# EAGLE library part BOARD_EDGE_SOCKET_36PIN (library SSI)
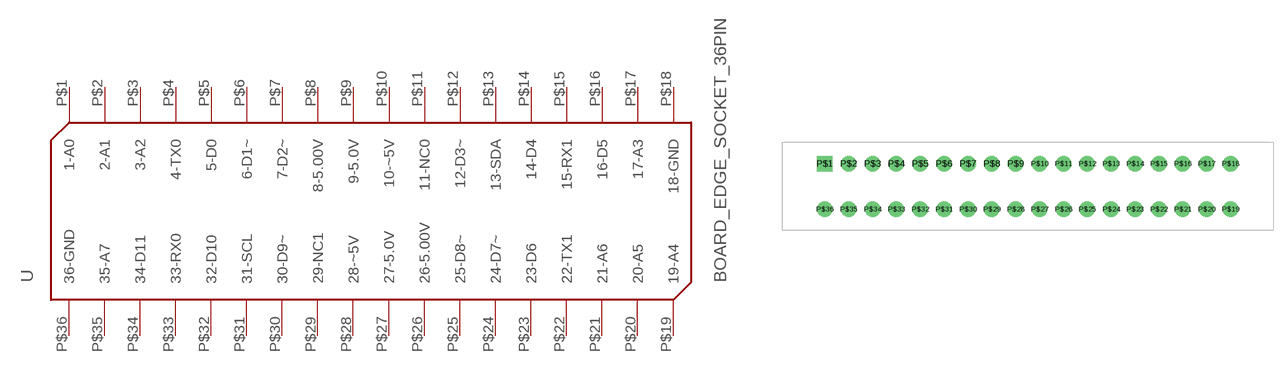
[diagram p5: symbol with the pads of BOARD_EDGE_SOCKET_36PIN; footprint BOARD_EDGE_SOCKET_36PIN]

Designator prefix -

## BOARD_EDGE_SOCKET_36PIN  [BOARD_EDGE_SOCKET_36PIN]
P$1  1-A0
P$2  2-A1
P$3  3-A2
P$4  4-TX0
P$5  5-D0
P$6  6-D1~
P$7  7-D2~
P$8  8-5.00V
P$9  9-5.0V
P$10  10-~5V
P$11  11-NC0
P$12  12-D3~
P$13  13-SDA
P$14  14-D4
P$15  15-RX1
P$16  16-D5
P$17  17-A3
P$18  18-GND
P$19  19-A4
P$20  20-A5
P$21  21-A6
P$22  22-TX1
P$23  23-D6
P$24  24-D7~
P$25  25-D8~
P$26  26-5.00V
P$27  27-5.0V
P$28  28-~5V
P$29  29-NC1
P$30  30-D9~
P$31  31-SCL
P$32  32-D10
P$33  33-RX0
P$34  34-D11
P$35  35-A7
P$36  36-GND

## Footprint BOARD_EDGE_SOCKET_36PIN (pad centres in mm)
drill 1.1 pad 1.524 square: P$1 -21.59,4.851
drill 1.1 pad 1.524: P$2 -19.05,4.851; P$3 -16.51,4.851; P$4 -13.97,4.851; P$5 -11.43,4.851; P$6 -8.89,4.851; P$7 -6.35,4.851; P$8 -3.81,4.851; P$9 -1.27,4.851; P$10 1.27,4.851; P$11 3.81,4.851; P$12 6.35,4.851; P$13 8.89,4.851; P$14 11.43,4.851; P$15 13.97,4.851; P$16 16.51,4.851; P$17 19.05,4.851; P$18 21.59,4.851; P$19 21.59,0; P$20 19.05,0; P$21 16.51,0; P$22 13.97,0; P$23 11.43,0; P$24 8.89,0; P$25 6.35,0; P$26 3.81,0; P$27 1.27,0; P$28 -1.27,0; P$29 -3.81,0; P$30 -6.35,0; P$31 -8.89,0; P$32 -11.43,0; P$33 -13.97,0; P$34 -16.51,0; P$35 -19.05,0; P$36 -21.59,0